# EAGLE library part ADUM131E (library KwanSystems)
Isolated gate driver Three channel device, with one channel going the opposite direction from the other two. Either side may run from 1.8V to 5V, and either side may be higher than the other.
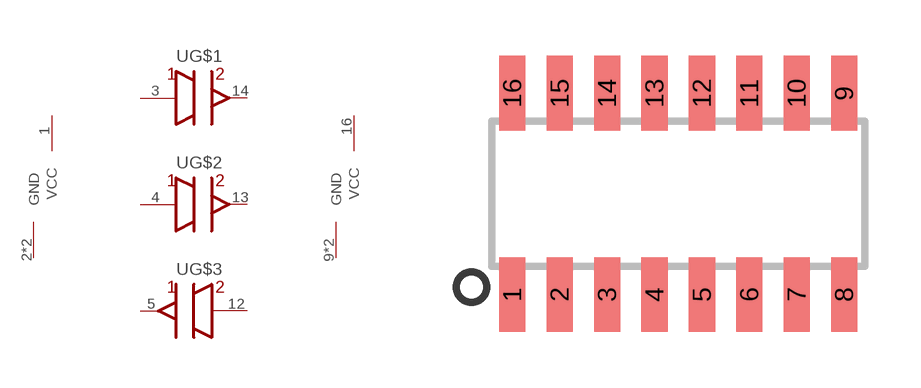
[diagram p52: symbol with the pads of 16-SOIC-N; footprint 16-SOIC-N]

Designator prefix -; gates G$1=ISOLATION_BUFFER G$2=ISOLATION_BUFFER G$3=ISOLATION_BACKBUFFER G$4=PWR G$5=PWR

## ADUM131E  [16-SOIC-N]
1  G$4:VCC
2  G$4:GND
3  G$1:IN  in
4  G$2:IN  in
5  G$3:OUT
8  G$4:GND
9  G$5:GND
12  G$3:IN  in
13  G$2:OUT
14  G$1:OUT
15  G$5:GND
16  G$5:VCC

## Footprint 16-SOIC-N (pad centres in mm)
smd 0.7 x 2: 1 -4.445,-2.7; 2 -3.175,-2.7; 3 -1.905,-2.7; 4 -0.635,-2.7; 5 0.635,-2.7; 6 1.905,-2.7; 7 3.175,-2.7; 8 4.445,-2.7; 9 4.445,2.7; 10 3.175,2.7; 11 1.905,2.7; 12 0.635,2.7; 13 -0.635,2.7; 14 -1.905,2.7; 15 -3.175,2.7; 16 -4.445,2.7